# Altium footprint library POWER_SUPPLY.PcbLib: 3 footprints
Each footprint in its own frame and in the unit in brackets; x right, y up, seen from the top. Pads: shape width x height; smd on the part's side, far side on the other; paste and mask are expansions set on the pad; w line width, h text height; cw(c..) or ccw(c..) is an arc to the next point about the centre after c.
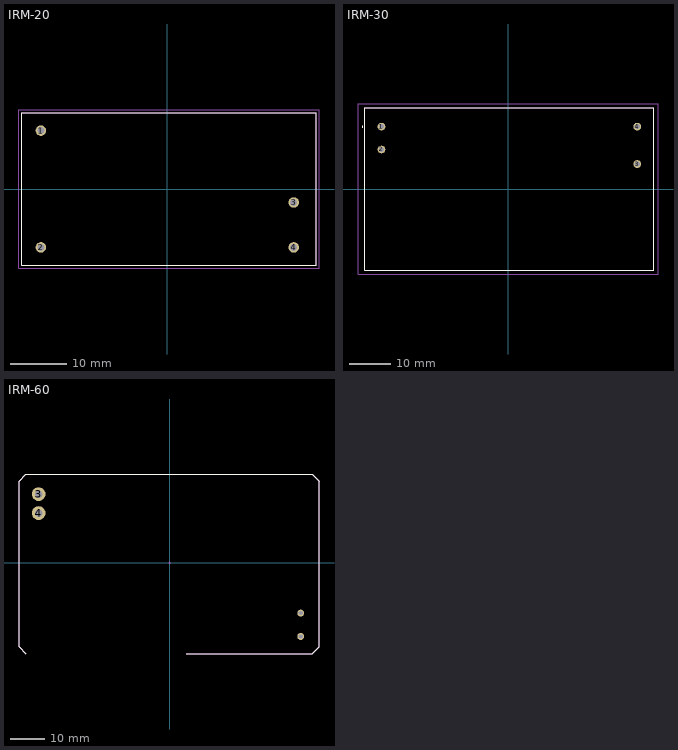
[diagram p0: the footprints below, top view; thin cyan lines are the x and y axes]

## IRM-20 [mm]
pads (4):
  round 1.86 hole 1.24: 1(-22.5,10.4) 2(-22.5,-10.4) 3(22.5,-2.4) 4(22.5,-10.4)
Top Overlay:
  lines w0.1: -25.9,-13.6 -25.9,13.6 26.5,13.6 26.5,-13.6 -25.9,-13.6
Mechanical 15:
  lines w0.1: -26.4,-14.1 -26.4,14.1 27,14.1 27,-14.1 -26.4,-14.1
Mechanical 29:
  lines w0.2: -25.9,-13.6 -25.9,13.6 26.5,13.6 26.5,-13.6 -25.9,-13.6
  text "'.Designator'" at -9.682,-0.905 h4
3D body "IRM-20-12.stp": height 24.1, standoff -5, extent -25.9,-13.6 26.5,13.6

## IRM-30 [mm]
pads (4):
  round 1.86 hole 1.24: 1(-30.425,15) 2(-30.425,9.5) 3(31.075,6) 4(31.075,15)
Top Overlay:
  lines w0.1: -34.425,-19.5 -34.425,19.5 35.075,19.5 35.075,-19.5 -34.425,-19.5
  lines w0.2: -34.975,14.9 cw(c-34.975,15) -34.975,15.1 cw(c-34.975,15) -34.975,14.9
Mechanical 15:
  lines w0.1: -36.075,-20.5 -36.075,20.5 36.075,20.5 36.075,-20.5 -36.075,-20.5
Mechanical 29:
  lines w0.2: -34.425,-19.5 -34.425,19.5 35.075,19.5 35.075,-19.5 -34.425,-19.5
  text "'.Designator'" at -12.1,-1.132 h5
3D body "IRM-30-12.stp": height 24.1, standoff -5, extent -34.425,-19.5 35.075,19.5

## IRM-60 [mm]
pads (4):
  round 2 hole 1.2 mask+0.05: 1(38,-21.375) 2(38,-14.625)
  round 4 hole 2.2 mask+0.05: 3(-38,19.875) 4(-38,14.375)
Top Overlay:
  lines w0.15: -41.7,-26.375 -43.7,-24.375 -43.7,23.625 -41.7,25.625 41.3,25.625 43.3,23.625 43.3,-24.375 41.3,-26.375 4.775,-26.375
Mechanical 15:
  lines w0.1: -0.3,0 0.3,0 ; 0,-0.3 0,0.3
Mechanical 29:
  lines w0.15: -41.7,-26.375 -43.7,-24.375 -43.7,23.625 -41.7,25.625 41.3,25.625 43.3,23.625 43.3,-24.375 41.3,-26.375 4.775,-26.375
  text "'.Designator'" at -12.1,-1.132 h5
3D body "IRM-45.STEP": height 29.51, standoff -3.49, extent -43.7,-26.375 43.3,25.625